# EAGLE library part LTC3127 (library Oles komponentbibliotek)
1A buck-boost DC/DC converter with programmable input current limit.
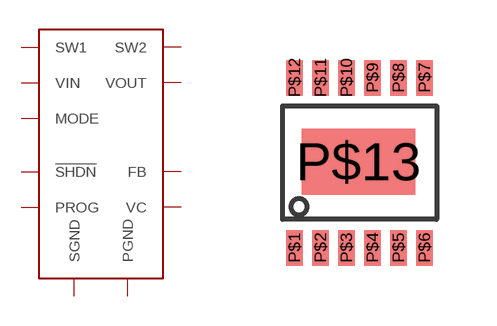
[diagram p42: symbol with the pads of MSOP12-SINK; footprint MSOP12-SINK]

Designator prefix -

## LTC3127  [MSOP12-SINK]
P$1  PGND  pwr
P$2  SW1  pwr
P$3  VIN  pwr
P$4  !SHDN  in
P$5  MODE  in
P$6  PROG  in
P$7  SGND  pwr
P$8  FB  in
P$9  VC  out
P$10  VOUT  pwr
P$11  SW2  pwr
P$12  PGND  pwr
P$13  PGND  pwr

## Footprint MSOP12-SINK (pad centres in mm)
smd 0.42 x 0.889: P$1 -1.3,-2.55; P$2 -0.65,-2.55; P$3 0,-2.55; P$4 0.65,-2.55; P$5 1.3,-2.55; P$6 1.95,-2.55; P$7 1.95,1.7; P$8 1.3,1.7; P$9 0.65,1.7; P$10 0,1.7; P$11 -0.65,1.7; P$12 -1.3,1.7
smd 2.845 x 1.651: P$13 0.3,-0.4